# Altium footprint library ESP-07S Module.PcbLib: 1 footprints
Each footprint in its own frame and in the unit in brackets; x right, y up, seen from the top. Pads: shape width x height; smd on the part's side, far side on the other; paste and mask are expansions set on the pad; w line width, h text height; cw(c..) or ccw(c..) is an arc to the next point about the centre after c.
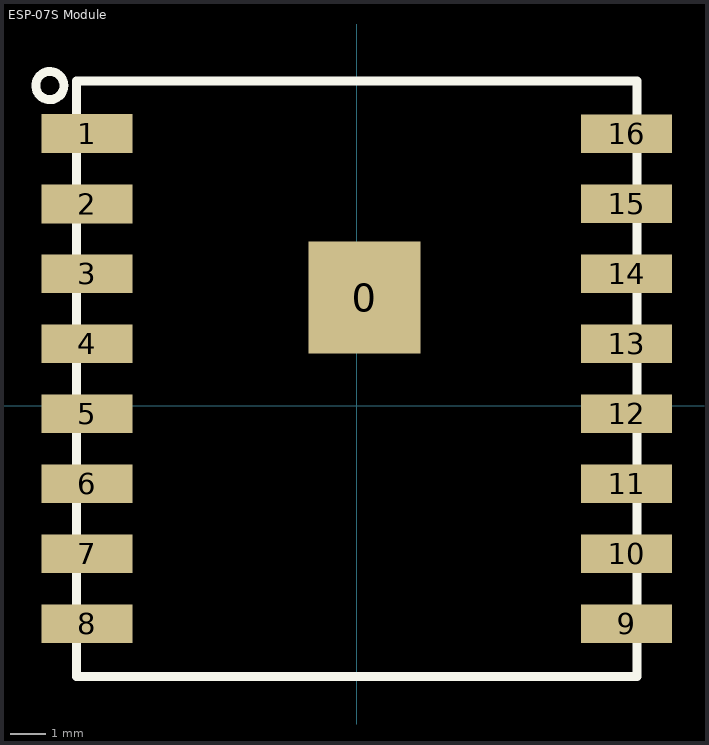
[diagram p0: the footprint, top view; thin cyan lines are the x and y axes]

## ESP-07S Module [mm]
pads (17):
  rect 3.2x3.2 smd: 0(0.22,3.092)
  rect 2.6x1.1 smd: 1(-7.7,7.775) 2(-7.7,5.762) 3(-7.7,3.775) 4(-7.7,1.775) 5(-7.7,-0.225) 6(-7.7,-2.225) 7(-7.7,-4.225) 8(-7.7,-6.225) 9(7.7,-6.225) 10(7.7,-4.225) 11(7.7,-2.225) 12(7.7,-0.225) 13(7.7,1.775) 14(7.7,3.775) 15(7.7,5.775) 16(7.7,7.769)
Top Overlay:
  circle w0.254: c-8.763,9.144 r0.402
  lines w0.254: -8,-7.725 8,-7.725 8,9.275 -8,9.275 -8,-7.725